# Altium schematic symbol library FUSE.SchLib: 1 symbol
Pins are listed as number, name and electrical type; pins without a type are passive.

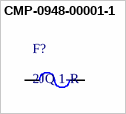
[diagram p0: symbol CMP-0948-00001-1]

## CMP-0948-00001-1
designator F?, comment 2JQ 1-R
Quick Acting Fuse, 1 A, 0.21 W, -55 to 125 degC, 2-Pin Axial Leaded, Dia 5.5 mm, Body Length 15 mm, RoHS; Manufacturer: Bel Fuse; Voltage Rating: 350 V; Typical Cold Resistance: 0.112 Ohm; Maximum Power Dissipation: 0.21 W; Ampere Rating: 1 A; RoHS: TRUE; ComponentLink1Description: Manufacturer URL; ComponentLink2Description: Datasheet; ComponentLink1URL: http://www.belfuse.com/; PartNumber: 2JQ 1-R; Temp. Range: -55 to 125 degC; DatasheetVersion: May-12; PackageDescription: 2-Pin Axial Lead, Dia 5.5 mm, Body Length 15 mm; PackageReference: 2JQ-1-2; ComponentLink2URL: http://belfuse.com/pdfs/JQ.pdf; Mounting Technology: Through Hole
footprint BELF-2JQ-1-2_V2 (Axial Lead, 2-Leads, Dia 5.5mm, Body Length 15mm, Pin Spacing 5.5mm)
footprint BELF-2JQ-1-2_V1 (Axial Lead, 2-Leads, Dia 5.5mm, Body Length 15mm, Pin Spacing 20mm)
pins: 1, 2